# Altium schematic symbol library RC0201FR-07100KL.SchLib: 1 symbol
Pins are listed as number, name and electrical type; pins without a type are passive.

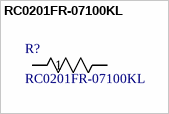
[diagram p0: symbol RC0201FR-07100KL]

## RC0201FR-07100KL
designator R?
Description; Manufacturer_Name: Yageo; Copyright: Copyright (C) 2025 Ultra Librarian. All rights reserved.; Manufacturer_Part_Number: RC0201FR-07100KL
footprint YAG_R0201_YAG
pins: 1, 2